# EAGLE library part ESP-12-TH (library trainlib)
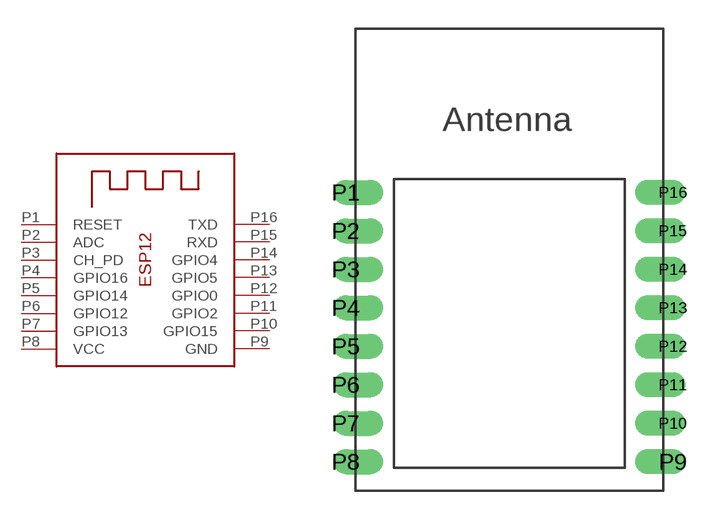
[diagram p14: symbol with the pads of ESP-12-TH; footprint ESP-12-TH]

Designator prefix X

## ESP-12-TH  [ESP-12-TH]
P1  RESET  in
P2  ADC  pas
P3  CH_PD  in
P4  GPIO16
P5  GPIO14
P6  GPIO12
P7  GPIO13
P8  VCC  pwr
P9  GND  pwr
P10  GPIO15
P11  GPIO2
P12  GPIO0
P13  GPIO5
P14  GPIO4
P15  RXD  in
P16  TXD  out

## Footprint ESP-12-TH (pad centres in mm)
drill 0.8 offset: P1 -8.5,4.5; P2 -8.5,2.5; P3 -8.5,0.5; P4 -8.5,-1.5; P5 -8.5,-3.5; P6 -8.5,-5.5; P7 -8.5,-7.5; P8 -8.5,-9.5; P9 8.5,-9.5; P10 8.5,-7.5; P11 8.5,-5.5; P12 8.5,-3.5; P13 8.5,-1.5; P14 8.5,0.5; P15 8.5,2.5; P16 8.5,4.5